# EAGLE library part TMCS1101 (library PP_Sensors)
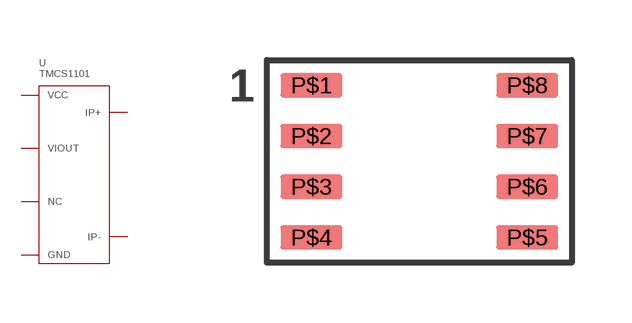
[diagram p12: symbol with the pads of TMCS1101; footprint TMCS1101]

Designator prefix U

## TMCS1101  [TMCS1101]
P$1  IP+
P$2  IP+
P$3  IP-
P$4  IP-
P$5  GND
P$6  NC
P$7  VIOUT
P$8  VCC

## Footprint TMCS1101 (pad centres in mm)
smd 1.55 x 0.6: P$1 -2.7,1.905; P$2 -2.7,0.635; P$3 -2.7,-0.635; P$4 -2.7,-1.905; P$5 2.7,-1.905; P$6 2.7,-0.635; P$7 2.7,0.635; P$8 2.7,1.905